# EAGLE library part NRFL01MOD (library Marvin)
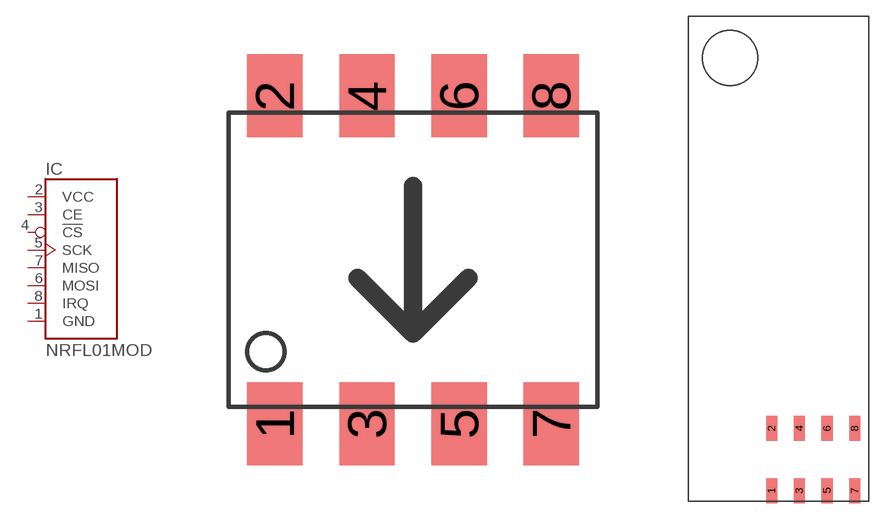
[diagram p14: symbol with the pads of NRF24L01SMT; footprints NRF24L01SMT, NRF24L01SMD]

Designator prefix IC

## NRFL01MODA (DIGIKEY: A111249CT-ND)  [NRF24L01SMT]
1  GND  pwr
2  VCC  pwr
3  CE
4  !CS
5  SCK
6  MOSI
7  MISO
8  IRQ

## NRFL01MODN  [NRF24L01SMD]
Pads as for NRF24L01SMT

## NRFL01MODP  [NRF24L01SLR]
Pads as for NRF24L01SMT

## NRFL01MODR  [NRF24L01SMH]
1  IRQ
2  MISO
3  MOSI
4  SCK
5  !CS
6  CE
7  VCC  pwr
8  GND  pwr

## NRFL01MODS  [NRF24L01SMH]
Pads as for NRF24L01SMT

## NRFL01MODT  [NRF24L01MOD]
Pads as for NRF24L01SMT

## Footprint NRF24L01SMT (pad centres in mm)
smd 1.524 x 2.286: 1 -3.81,-4.521; 2 -3.81,4.521; 3 -1.27,-4.521; 4 -1.27,4.521; 5 1.27,-4.521; 6 1.27,4.521; 7 3.81,-4.521; 8 3.81,4.521

## Footprint NRF24L01SMD (pad centres in mm)
smd 1.016 x 2.286: 1 -3.81,-2.857; 2 -3.81,2.857; 3 -1.27,-2.857; 4 -1.27,2.857; 5 1.27,-2.857; 6 1.27,2.857; 7 3.81,-2.857; 8 3.81,2.857

## Footprint NRF24L01SLR (pad centres in mm)
NRF24L01+PA+LNA Direct solder package for nRF24L01p+PA+LNA v2.0 and v3.1
drill 1 square: 1 -3.81,1.27
drill 1: 2 -3.81,3.81; 3 -1.27,1.27; 4 -1.27,3.81; 5 1.27,1.27; 6 1.27,3.81; 7 3.81,1.27; 8 3.81,3.81

## Footprint NRF24L01SMH (pad centres in mm)
smd 1.422 x 1.727: 1 -3.81,-3.861; 3 -1.27,-3.861; 5 1.27,-3.861; 7 3.81,-3.861
smd 1.422 x 1.829: 2 -3.81,0; 4 -1.27,0; 6 1.27,0; 8 3.81,0

## Footprint NRF24L01MOD (pad centres in mm)
drill 0.8 square: 1 0,0
drill 0.8: 2 0,2.54; 3 2.54,0; 4 2.54,2.54; 5 5.08,0; 6 5.08,2.54; 7 7.62,0; 8 7.62,2.54